# Altium footprint library SMPS150.PcbLib: 39 footprints (part 1 of 3)
Each footprint in its own frame and in the unit in brackets; x right, y up, seen from the top. Pads: shape width x height; smd on the part's side, far side on the other; paste and mask are expansions set on the pad; w line width, h text height; cw(c..) or ccw(c..) is an arc to the next point about the centre after c.
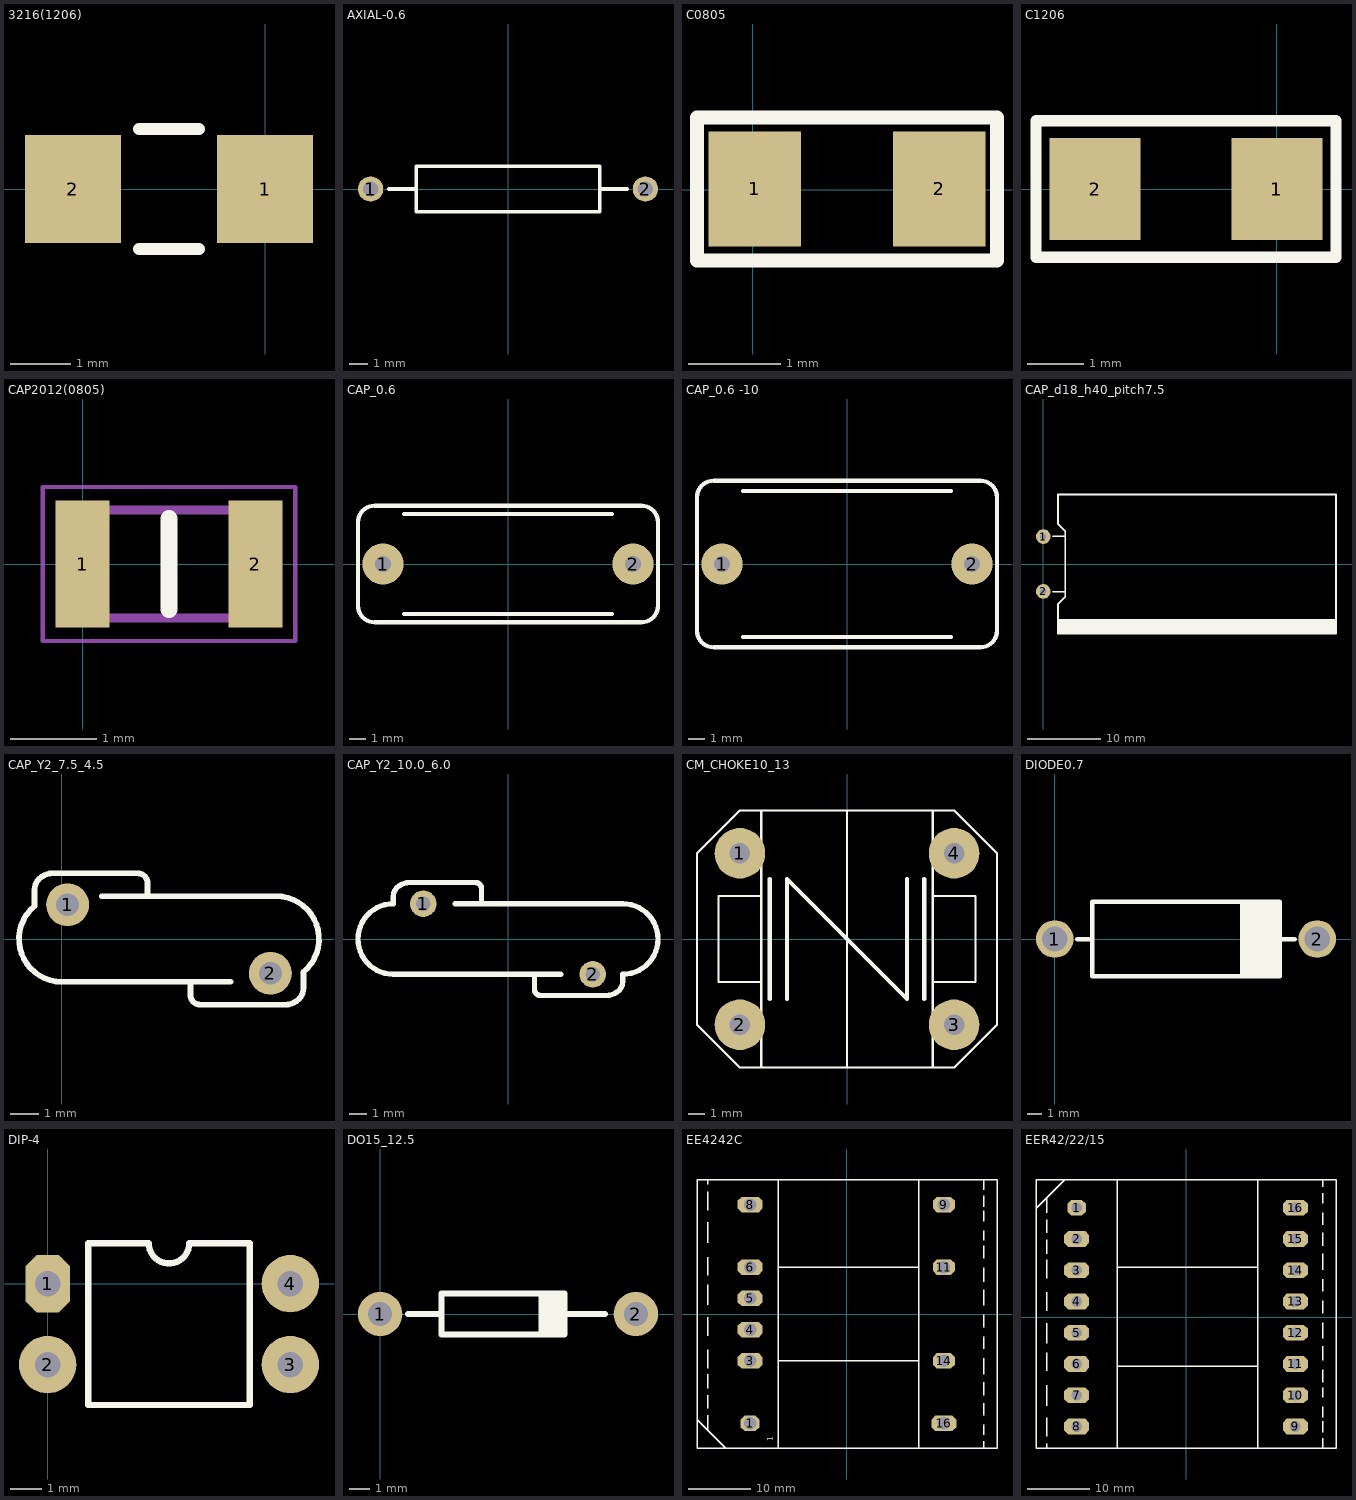
[diagram p0: the footprints below, top view; thin cyan lines are the x and y axes]

## 3216(1206) [mm]
height 1.35
pads (2):
  rect 1.6x1.8 smd: 1(0,0) 2(-3.2,0)
Top Overlay:
  lines w0.2: -2.1,-1 -1.1,-1 ; -2.1,1 -1.1,1
3D body "CRCW1206432KFKTA.stp": height 0.6, standoff 0, extent -3.125,-0.8 0.025,0.8

## AXIAL-0.6 [mm] "Axial Device, Thru-Hole; 2 Leads; 0.6 in Pin Spacing"
height 2.54
pads (2):
  round 1.4 hole 0.85: 1(-7.62,0) 2(7.62,0)
Top Overlay:
  lines w0.2: -6.604,0 -5.08,0 ; 5.08,0 6.604,0 ; -5.08,-1.27 5.08,-1.27 5.08,1.27 -5.08,1.27 -5.08,-1.27

## C0805 [mm]
pads (2):
  rect 1x1.25 smd: 1(0.02,0.009) 2(2.02,0.009)
Top Overlay:
  lines w0.15: -0.605,-0.766 2.645,-0.766 2.645,0.784 -0.605,0.784 -0.605,-0.766
3D body "CGJ4C2C0G1H101J060AA.stp": height 0.75, standoff 0, extent 0,-0.625 2,0.625

## C1206 [mm]
height 1.35
pads (2):
  rect 1.6x1.8 smd: 1(0,0) 2(-3.2,0)
Top Overlay:
  lines w0.2: -4.242,-1.2 1.041,-1.2 1.041,1.2 -4.242,1.2 -4.242,-1.2
3D body "CRCW1206432KFKTA.stp": height 0.6, standoff 0, extent -3.125,-0.8 0.025,0.8

## CAP2012(0805) [mm]
height 1.35
pads (2):
  rect 0.62x1.47 smd: 1(0,0) 2(2,0)
Top Overlay:
  lines w0.2: 1,-0.525 1,0.525
Mechanical 13:
  lines w0.1: 0,-0.625 0,0.625 2,0.625 2,-0.625 0,-0.625
Mechanical 15:
  lines w0.05: -0.46,-0.89 -0.46,0.89 2.46,0.89 2.46,-0.89 -0.46,-0.89
3D body "CGJ4C2C0G1H101J060AA.stp": height 0.75, standoff 0, extent 0,-0.625 2,0.625

## CAP_0.6 [mm]
height 1.35
pads (2):
  round 2.5 hole 1: 1(-7.62,0) 2(7.62,0)
Top Overlay:
  lines w0.254: -6.35,-3.048 6.35,-3.048 ; -6.35,3.048 6.35,3.048 ; -9.144,-2.54 ccw(c-8.128,-2.54) -8.128,-3.556 8.128,-3.556 ccw(c8.128,-2.54) 9.144,-2.54 9.144,2.54 ccw(c8.128,2.54) 8.128,3.556 -8.128,3.556 ccw(c-8.128,2.54) -9.144,2.54 -9.144,-2.54
3D body "r73ei3100se00j.stp": height 13.6, standoff -6, extent -9.15,-3.9 9.35,3.805

## CAP_0.6 -10 [mm]
pads (2):
  round 2.5 hole 1: 1(-7.62,0) 2(7.62,0)
Top Overlay:
  lines w0.254: -6.35,-4.445 6.35,-4.445 ; -6.35,4.445 6.35,4.445 ; -9.144,-4.064 ccw(c-8.128,-4.064) -8.128,-5.08 8.128,-5.08 ccw(c8.128,-4.064) 9.144,-4.064 9.144,4.064 ccw(c8.128,4.064) 8.128,5.08 -8.128,5.08 ccw(c-8.128,4.064) -9.144,4.064 -9.144,-4.064
3D body "r73ei3100se00j.stp": height 13.6, standoff -6, extent -9.15,-3.9 9.35,3.805

## CAP_d18_h40_pitch7.5 [mm]
height 1.35
pads (2):
  round 2 hole 0.9: 1(0,3.75) 2(0,-3.75)
Top Overlay:
  rectangle: 2.1,-9.5 40,-7.5
  lines w0.254: 1.3,-3.8 2.9,-3.8 ; 1.3,3.8 2.9,3.8 ; 2,-9.5 40,-9.5 40,9.5 2,9.5 2,5.5 3,4.5 3,-4.5 2,-5.5 2,-9.5
3D body "cap_el_horizontal_d18_h40_pitch7.5_w0.8.stp": height 18.09, standoff -3, extent -0.4,-9.11 42.41,8.9

## CAP_Y2_7.5_4.5 [mm]
height 1.35
pads (2):
  round 1.5 hole 0.8: 1(0.2,1.2) 2(7.3,-1.2)
Top Overlay:
  lines w0.2: 1.4,1.5 7.561,1.5 ; 3,1.5 3,1.959 ccw(c2.659,1.959) 2.9,2.2 ccw(c2.659,1.959) 2.659,2.3 -0.317,2.3 ccw(c-0.317,1.617) -0.8,2.1 ccw(c-0.413,1.713) -0.96,1.713 -0.96,1.152 ccw(c0,0) 0,-1.5 5.9,-1.5 ; 4.5,-1.5 4.5,-1.959 ccw(c4.841,-1.959) 4.6,-2.2 ccw(c4.841,-1.959) 4.841,-2.3 7.817,-2.3 ccw(c7.817,-1.617) 8.3,-2.1 ccw(c7.913,-1.713) 8.46,-1.713 8.46,-1.152 ccw(c7.5,0) 7.5,1.5
3D body "Y2_7x4.5_7.5mm.STEP": height 8, standoff -2.5, extent -1.152,-3.79 8.553,3.99

## CAP_Y2_10.0_6.0 [mm]
height 1.35
pads (2):
  round 1.5 hole 0.8: 1(-4.8,2) 2(4.8,-2)
Top Overlay:
  lines w0.3: -3,2 6.5,2 cw(c6.5,0) 6.5,-2 6.5,-2.417 cw(c5.817,-2.417) 6.3,-2.9 cw(c5.576,-2.176) 5.576,-3.2 1.841,-3.2 cw(c1.841,-2.859) 1.6,-3.1 cw(c1.841,-2.859) 1.5,-2.859 1.5,-2 ; -1.5,2 -1.5,2.859 ccw(c-1.841,2.859) -1.6,3.1 ccw(c-1.841,2.859) -1.841,3.2 -5.576,3.2 ccw(c-5.576,2.176) -6.3,2.9 ccw(c-5.817,2.417) -6.5,2.417 -6.5,2 ccw(c-6.5,0) -6.5,-2 3,-2
3D body "User Library-440LD68-R.STEP": height 23.5, standoff -26.8, extent -9.15,-3 9.15,3

## CM_CHOKE10_13 [mm]
height 1.35
pads (4):
  round 3 hole 1.2: 1(-6.35,5.08) 2(-6.35,-5.08) 3(6.35,-5.08) 4(6.35,5.08)
Top Overlay:
  lines w0.127: -5.08,-7.62 -5.08,7.62 ; -5.08,-2.54 -7.62,-2.54 -7.62,2.54 -5.08,2.54 ; 0,-7.62 0,7.62 ; 5.08,-7.62 5.08,7.62 ; 5.08,-2.54 7.62,-2.54 7.62,2.54 5.08,2.54 ; -8.89,-5.08 -8.89,5.08 -6.35,7.62 6.35,7.62 8.89,5.08 8.89,-5.08 6.35,-7.62 -6.35,-7.62 -8.89,-5.08
  lines w0.254: -4.572,-3.556 -4.572,3.556 ; -3.556,-3.556 -3.556,3.556 3.556,-3.556 3.556,3.556 ; 4.572,-3.556 4.572,3.556
3D body "KEMET - SS11V-R05350-CH_v1.step": height 18.05, standoff -3.5, extent -11,-7.25 11,7.25

## DIODE0.7 [mm]
height 1.35
pads (2):
  round 2.54 hole 1.7: 1(0,0) 2(17.78,0)
Top Overlay:
  rectangle: 12.7,-2.399 15.1,2.401
  lines w0.305: 1.524,0 2.54,0 ; 12.7,-2.54 12.7,2.54 ; 15.24,0 16.256,0 ; 2.54,-2.54 15.24,-2.54 15.24,2.54 2.54,2.54 2.54,-2.54
3D body "User Library-DO-201ADDO-27.STEP": height 7.9, standoff -1.72, extent -1.34,-2.8 18.8,2.84

## DIP-4 [mm]
height 1.1
pads (4):
  oct 1.4x1.8 hole 0.8: 1(0,0)
  round 1.8 hole 0.8: 2(0,-2.54) 3(7.62,-2.54) 4(7.62,0)
Top Overlay:
  lines w0.2: 1.27,-3.81 1.27,1.27 3.175,1.27 ccw(c3.81,1.27) 4.445,1.27 6.35,1.27 6.35,-3.81 1.27,-3.81
3D body "CircuitWorks-DIP4.STEP": height 4.31, standoff -3.28, extent -0.19,-4.064 7.81,1.476

## DO15_12.5 [mm]
height 1.1
pads (2):
  round 2.2 hole 1.2: 1(0,0) 2(12.7,0)
Top Overlay:
  rectangle: 8.255,-1.016 9.017,1.016
  rectangle: 8.128,-1.016 8.382,1.016
  rectangle: 7.874,-1.016 8.255,1.016
  lines w0.305: 1.397,0 2.921,0 ; 9.144,0 11.176,0 ; 3.048,-1.016 3.048,1.016 9.144,1.016 9.144,-1.016 3.048,-1.016

## EE4242C [mm]
pads (10):
  oct 3x2.5 hole 2: 1(-15.5,-17.5)
  oct 4x2.5 hole 2: 3(-15.5,-7.5) 4(-15.5,-2.5) 5(-15.5,2.5) 6(-15.5,7.5) 8(-15.5,17.5) 16(15.5,-17.5)
  oct 3.5x2.5 hole 2: 9(15.5,17.5) 11(15.5,7.5) 14(15.5,-7.5)
Top Overlay:
  lines w0.203: -24,-16.9 -19.4,-21.5 ; -22.3,-18.5 -22.3,-16.2 ; -22.3,-15.1 -22.3,-13 ; -22.3,-11.9 -22.3,-9.6 ; -22.3,-8.7 -22.3,-5.7 ; -22.3,-3.5 -22.3,-0.5 ; -22.3,1.5 -22.3,4.7 ; -22.3,6.2 -22.3,9.1 ; -22.3,11.4 -22.3,14.7 ; -22.3,16.6 -22.3,19.6 ; -22.3,20.8 -22.3,21.4 ; -11,-21.5 -11,21.5 ; -11,-7.5 11.5,-7.5 ; -11,7.5 11.5,7.5 ; 11.5,-21.5 11.5,21.5 ; 21.9,-21.5 21.9,-20.4 ; 21.9,-19.3 21.9,-17.7 ; 21.9,-16.2 21.9,-14.3 ; 21.9,-13 21.9,-10.9 ; 21.9,-9.6 21.9,-7.1 ; 21.9,-5.6 21.9,-3.6 ; 21.9,-2.1 21.9,-0.1 ; 21.9,1.4 21.9,3.9 ; 21.9,5.2 21.9,7.4 ; 21.9,8.9 21.9,10.9 ; 21.9,11.8 21.9,13.3 ; 21.9,14.8 21.9,16.5 ; 21.9,17.2 21.9,18.9 ; 21.9,19.9 21.9,21.5 ; -24,-21.5 24,-21.5 24,21.5 -24,21.5 -24,-21.5
  text "1" at -11.9,-20.4 h0.89
3D body "ETD39 Horizontal v7.step": height 36.24, standoff -3.8, extent -23.374,-22.199 23.426,22.401

## EER42/22/15 [mm]
pads (16):
  oct 3x2.5 hole 1.7: 1(-17.5,17.5)
  oct 4x2.5 hole 1.7: 2(-17.5,12.5) 3(-17.5,7.5) 4(-17.5,2.5) 5(-17.5,-2.5) 6(-17.5,-7.5) 7(-17.5,-12.5) 8(-17.5,-17.5) 9(17.5,-17.5) 10(17.5,-12.5) 11(17.5,-7.5) 12(17.5,-2.5) 13(17.5,2.5) 14(17.5,7.5) 15(17.5,12.5) 16(17.5,17.5)
Top Overlay:
  lines w0.203: -24,17.4 -19.4,22 ; -22.3,-20.9 -22.3,-20.3 ; -22.3,-19.1 -22.3,-16.1 ; -22.3,-14.2 -22.3,-10.9 ; -22.3,-8.6 -22.3,-5.7 ; -22.3,-4.2 -22.3,-1 ; -22.3,1 -22.3,4 ; -22.3,6.2 -22.3,9.2 ; -22.3,10.1 -22.3,12.4 ; -22.3,13.5 -22.3,15.6 ; -22.3,16.7 -22.3,19 ; -11,-21 -11,22 ; -11,-7.9 11.5,-7.9 ; -11,8 11.5,8 ; 11.5,-21 11.5,22 ; 21.9,-21 21.9,-19.4 ; 21.9,-18.4 21.9,-16.7 ; 21.9,-16 21.9,-14.3 ; 21.9,-12.8 21.9,-11.3 ; 21.9,-10.4 21.9,-8.4 ; 21.9,-6.9 21.9,-4.7 ; 21.9,-3.4 21.9,-0.9 ; 21.9,0.6 21.9,2.6 ; 21.9,4.1 21.9,6.1 ; 21.9,7.6 21.9,10.1 ; 21.9,11.4 21.9,13.5 ; 21.9,14.8 21.9,16.7 ; 21.9,18.2 21.9,19.8 ; 21.9,20.9 21.9,22 ; -24,-21 -24,22 24,22 24,-21 -24,-21
Bottom Overlay:
  text "1" at -11.9,20.9 h0.89